# Altium integrated library GRM188C71A475KE11D.IntLib: 1 symbol
Pins are listed as number, name and electrical type; pins without a type are passive.

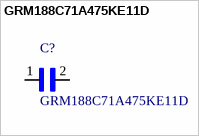
[diagram p0: symbol GRM188C71A475KE11D]

## GRM188C71A475KE11D
designator C?
/ Cap Ceramic 4.7uF 10V X7S 10% Pad SMD 0603 125C T/R /; MF: Murata; Package: 1608 Murata; Price: None; SnapEDA_Link: https://www.snapeda.com/parts/GRM188C71A475KE11D/Murata/view-part/?ref=snap; MP: GRM188C71A475KE11D; Availability: Unavailable; Value: *
footprint *CAPC1608X95N
pins: 1, 2